# Altium footprint library CAPAE430X550N.PcbLib: 1 footprints
Each footprint in its own frame and in the unit in brackets; x right, y up, seen from the top. Pads: shape width x height; smd on the part's side, far side on the other; paste and mask are expansions set on the pad; w line width, h text height; cw(c..) or ccw(c..) is an arc to the next point about the centre after c.
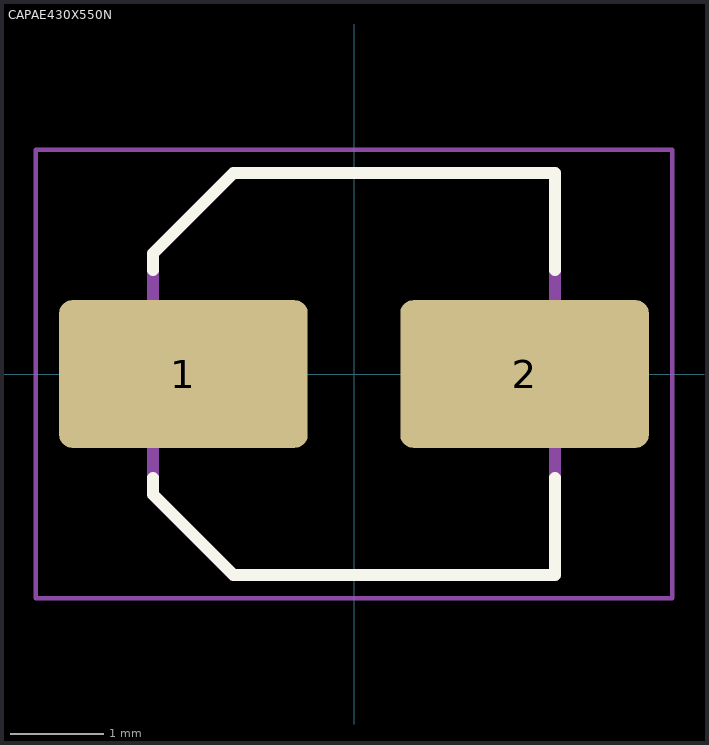
[diagram p0: the footprint, top view; thin cyan lines are the x and y axes]

## CAPAE430X550N [mm]
pads (2):
  rrect17% 2.66x1.58 smd: 1(-1.825,0) 2(1.825,0)
Top Overlay:
  lines w0.127: -2.15,-1.11 -2.15,-1.29 -1.29,-2.15 2.15,-2.15 2.15,-1.11 ; -2.15,1.11 -2.15,1.29 -1.29,2.15 2.15,2.15 2.15,1.11
Mechanical 13:
  lines w0.127: -2.15,-1.29 -1.29,-2.15 2.15,-2.15 2.15,2.15 -1.29,2.15 -2.15,1.29 -2.15,-1.29
Mechanical 15:
  lines w0.05: -3.405,-2.4 -3.405,2.4 3.405,2.4 3.405,-2.4 -3.405,-2.4
3D body "step_temp.STEP": height 5.2, standoff -0.3, extent -2.503,-2.15 2.503,2.15